# Altium schematic symbol library DC_Stepper.SCHLIB: 16 symbols
Pins are listed as number, name and electrical type; pins without a type are passive.

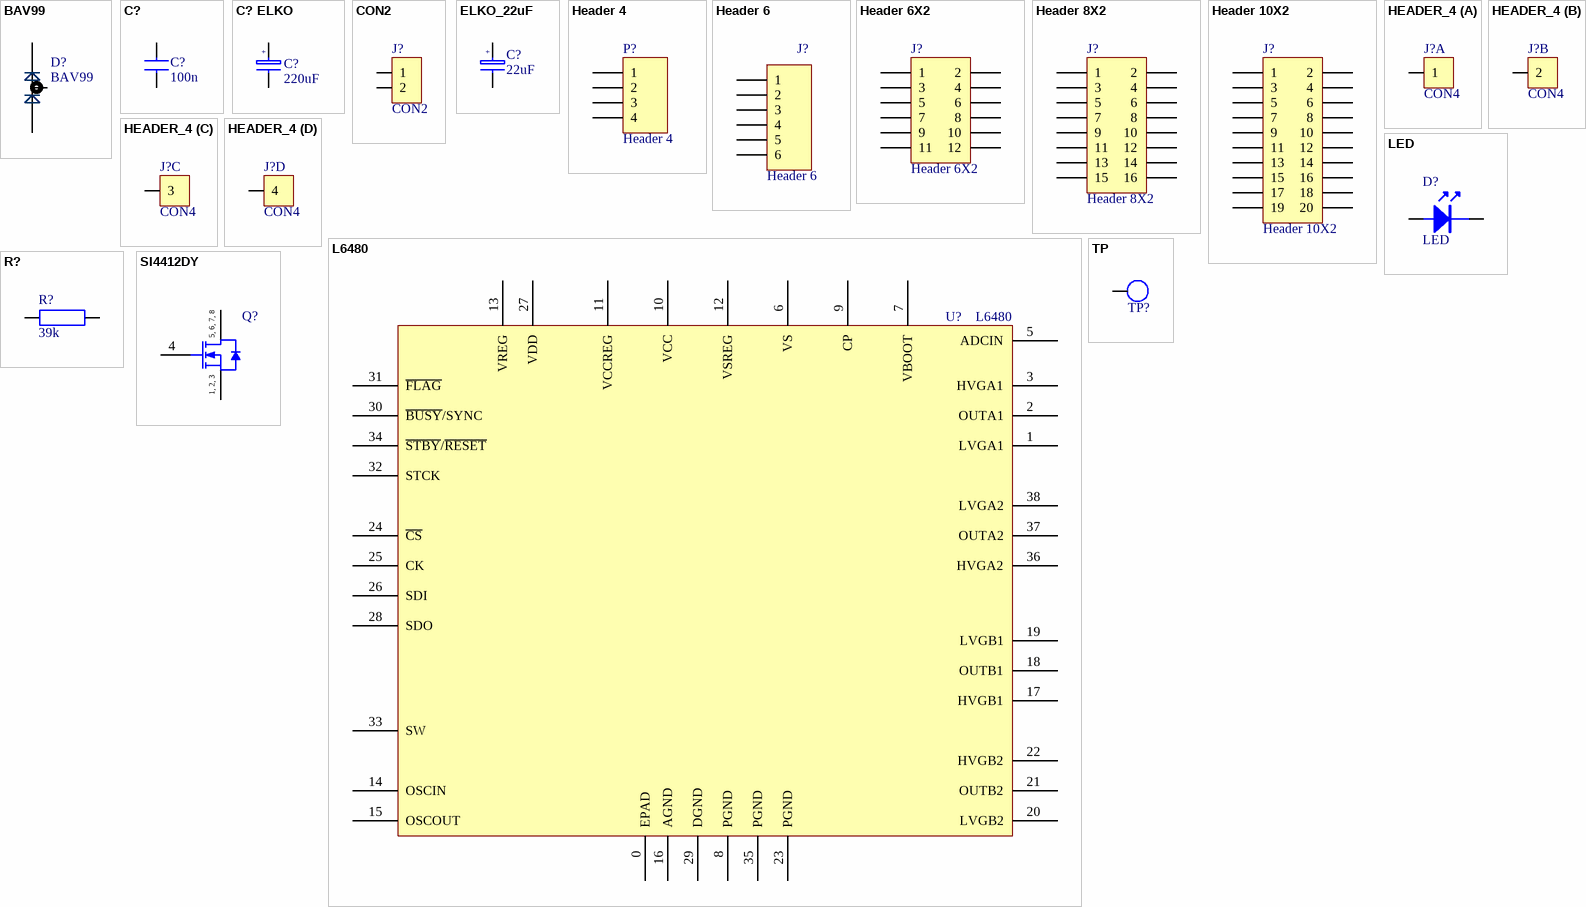
[diagram p0: symbols BAV99 to TP]

## BAV99
designator D?
footprint SOT-23 3L
pins: 1, 2, 3

## C?
designator C?, comment 100n
Normaler Kondensator
footprint 0805
pins: 1, 2

## C? ELKO
designator C?, comment 220uF
Elektrolyt /polarisierter Kondensator
footprint ELKO_220uF
pins: A 1, K 2
text: +

## CON2
designator J?
footprint HEADER_1X2_3.81
pins: 1, 2

## ELKO_22uF
designator C?, comment 22uF
footprint ELKO_E7
footprint ELKO_22uF (NKR220M1CE11VU)
pins: A 1, K 2
text: +

## Header 4
designator P?
Header, 4-Pin; LatestRevisionDate: 17-Jul-2002; LatestRevisionNote: Re-released for DXP Platform.; Publisher: Altium Limited
footprint HDR1X4 (Connector; Header; 4 Position)
signal-integrity model Connector
pins: 1, 2, 3, 4

## Header 6
designator J?
Header, 6-Pin; LatestRevisionDate: 17-Jul-2002; LatestRevisionNote: Re-released for DXP Platform.; Publisher: Altium Limited
footprint Header_1x6_3.81-H
pins: 1, 2, 3, 4, 5, 6

## Header 6X2
designator J?
Header, 6-Pin, Dual row; LatestRevisionDate: 17-Jul-2002; LatestRevisionNote: Re-released for DXP Platform.; Publisher: Altium Limited
footprint HDR2X6
pins: 1, 2, 3, 4, 5, 6, 7, 8, 9, 10, 11, 12

## Header 8X2
designator J?
Header, 8-Pin, Dual row; LatestRevisionDate: 17-Jul-2002; LatestRevisionNote: Re-released for DXP Platform.; Publisher: Altium Limited
footprint HDR2X8 (Connector; Header; 8x2 Position)
signal-integrity model Connector
pins: 1, 2, 3, 4, 5, 6, 7, 8, 9, 10, 11, 12, 13, 14, 15, 16

## Header 10X2
designator J?
Header, 10-Pin, Dual row; LatestRevisionDate: 17-Jul-2002; LatestRevisionNote: Re-released for DXP Platform.; Publisher: Altium Limited
footprint HDR2X10 (Connector; Header; 10x2 Position)
signal-integrity model Connector
pins: 1, 2, 3, 4, 5, 6, 7, 8, 9, 10, 11, 12, 13, 14, 15, 16, 17, 18, 19, 20

## HEADER_4
designator J?, comment CON4
1x4_3.81-H
footprint Header_1x4_3.81-H
part A pins: 1
part B pins: 2
part C pins: 3
part D pins: 4

## L6480
designator U?
footprint HTSSOP38 (L6480)
pins: 0 EPAD, 1 LVGA1, 2 OUTA1, 3 HVGA1, 4 NC hidden, 5 ADCIN, 6 VS, 7 VBOOT, 8 PGND, 9 CP, 10 VCC, 11 VCCREG, 12 VSREG, 13 VREG, 14 OSCIN, 15 OSCOUT, 16 AGND, 17 HVGB1, 18 OUTB1, 19 LVGB1, 20 LVGB2, 21 OUTB2, 22 HVGB2, 23 PGND, 24 ~{CS}, 25 CK, 26 SDI, 27 VDD, 28 SDO, 29 DGND, 30 ~{BUSY}/SYNC, 31 ~{FLAG}, 32 STCK, 33 SW, 34 ~{STBY}/~{RESET}, 35 PGND, 36 HVGA2, 37 OUTA2, 38 LVGA2

## LED
designator D?
footprint LED
pins: A, K

## R?
designator R?, comment 39k
Normaler Widerstand
footprint 0805
pins: 1, 2

## SI4412DY
designator Q?, comment Si4178DY  (value not drawn)
N-Channel 30V (D-S)  Rated MOSFET; Published: 8-Jun-2000; LatestRevisionDate: 13-Apr-2006; LatestRevisionNote: IPC-7351 Footprint Added.; DatasheetVersion: 6-Oct-1997; PackageVersion: Aug-1998; PackageReference: SO-8; Publisher: Altium Limited; PackageDescription: 8-Pin Small Outline Integrated Circuit 1.27 mm Pitch; ComponentLink1Description: Manufacturer Link; ComponentLink1URL: http://www.vishay.com/; ComponentLink2Description: Datasheet; ComponentLink2URL: http://www.vishay.com/docs/70154/70154.pdf
footprint SO-8_N (SOIC, 8-Leads, Body 4.9x3.9mm, Pitch 1.27mm, IPC Medium Density)
footprint SO-8_M (SOIC, 8-Leads, Body 4.9x3.9mm, Pitch 1.27mm, IPC Low Density)
pins: 1 S, 2 S, 3 S, 4 G, 5 D, 6 D, 7 D, 8 D
text: 5, 6, 7, 8; 1, 2, 3

## TP
designator TP?  (value not drawn)
footprint TP2.54-1.0
footprint TP2.54-1.3
footprint TP4.5-1.5
footprint TP5.0x1.5_Botttom (Lötpad Bottom-Seite)
footprint TP6.0-1.5
footprint TP2.54-1.0
pins: 1